# Altium schematic symbol library MCUBoards.SchLib: 2 symbols
Pins are listed as number, name and electrical type; pins without a type are passive.

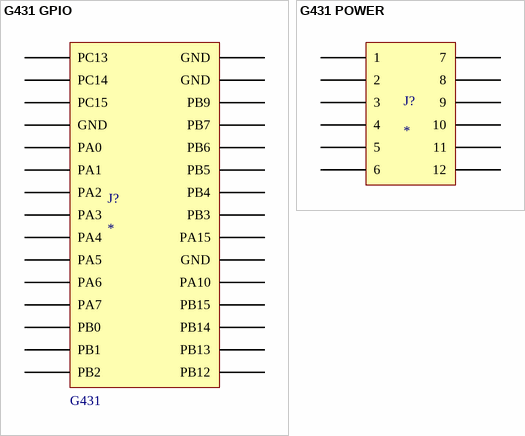
[diagram p0: symbols G431 GPIO to G431 POWER]

## G431 GPIO
designator J?
PPPC152LJBN-RC (30 Position Header Connector 0.100" (2.54mm) Through Hole, Right Angle Gold); Manufacturer Name: Sullins Connector Solutions; Manufacturer Part Number (CONN): PPPC152LJBN-RC; Supplier Name: Digikey; Supplier Part Number: S5568-ND
footprint G431 Header (GPIO Connector) (30 Position Header Connector 0.100" (2.54mm) Through Hole, Right Angle Gold)
pins: 1 PC13, 2 PC14, 3 PC15, 4 GND, 5 PA0, 6 PA1, 7 PA2, 8 PA3, 9 PA4, 10 PA5, 11 PA6, 12 PA7, 13 PB0, 14 PB1, 15 PB2, 16 GND, 17 GND, 18 PB9, 19 PB7, 20 PB6, 21 PB5, 22 PB4, 23 PB3, 24 PA15, 25 GND, 26 PA10, 27 PB15, 28 PB14, 29 PB13, 30 PB12
text: G431

## G431 POWER
designator J?
PPPC062LJBN-RC (12 Position Header Connector 0.100" (2.54mm) Through Hole, Right Angle Gold); Manufacturer Name: Sullins Connector Solutions; Manufacturer Part Number: PPPC062LJBN-RC; Supplier Name: Digikey; Supplier Part Number: S5559-ND
footprint G431 HEADER (POWER CONNECTOR) (12 Position Header Connector 0.100" (2.54mm) Through Hole, Right Angle Gold)
pins: 1, 2, 3, 4, 5, 6, 7, 8, 9, 10, 11, 12